# EAGLE library part 691412120021MB (library Wurth_Elektronik_Electromechanic_Terminal_Blocks_Connectors_rev16b)
WR-TBL Serie 412MB - 3.5mm Screwless 45° Entry Grey - 1.5mm2 Wires, 21 Pins=>Code : Con_TBL_Screwless_3.50_691412120021MB <http://katalog.we-online.de/media/images/eican/Con_TBL_Screwless_3.50_6914121200xxMB_pf2.jpg> Details see: http://katalog.we-online.de/en/em/691_412_120_0xxMB Created 2014-06-25, Karrer Zheng 2014 (C) Würth Elektronik
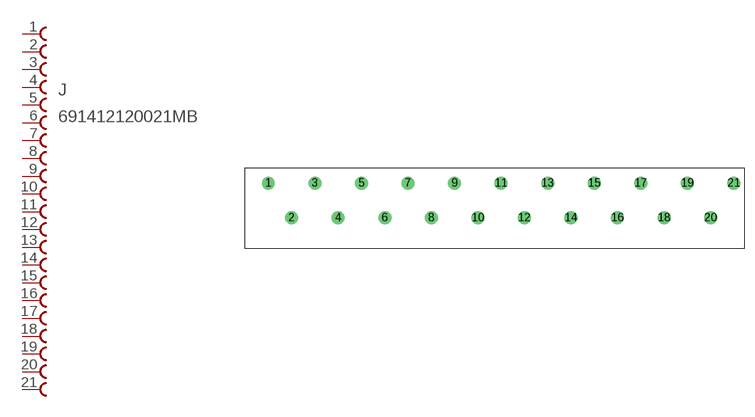
[diagram p377: symbol with the pads of 691412120021MB; footprint 691412120021MB]

Designator prefix J

## 691412120021MB  [691412120021MB]
1  1  pas
2  2  pas
3  3  pas
4  4  pas
5  5  pas
6  6  pas
7  7  pas
8  8  pas
9  9  pas
10  10  pas
11  11  pas
12  12  pas
13  13  pas
14  14  pas
15  15  pas
16  16  pas
17  17  pas
18  18  pas
19  19  pas
20  20  pas
21  21  pas

## Footprint 691412120021MB (pad centres in mm)
WR-TBL Serie 412MB - 3.5mm Screwless 45° Entry Grey - 1.5mm2 Wires, 21 Pins
drill 1.3: 1 0.03,5.2; 2 3.53,0; 3 7.03,5.2; 4 10.53,0; 5 14.03,5.2; 6 17.53,0; 7 21.03,5.2; 8 24.53,0; 9 28.03,5.2; 10 31.53,0; 11 35,5.2; 12 38.5,0; 13 42,5.2; 14 45.5,0; 15 49,5.2; 16 52.5,0; 17 56,5.2; 18 59.5,0; 19 63,5.2; 20 66.5,0; 21 70,5.2